# Altium footprint library 4G2.PcbLib: 47 footprints (part 3 of 3)
Each footprint in its own frame and in the unit in brackets; x right, y up, seen from the top. Pads: shape width x height; smd on the part's side, far side on the other; paste and mask are expansions set on the pad; w line width, h text height; cw(c..) or ccw(c..) is an arc to the next point about the centre after c.
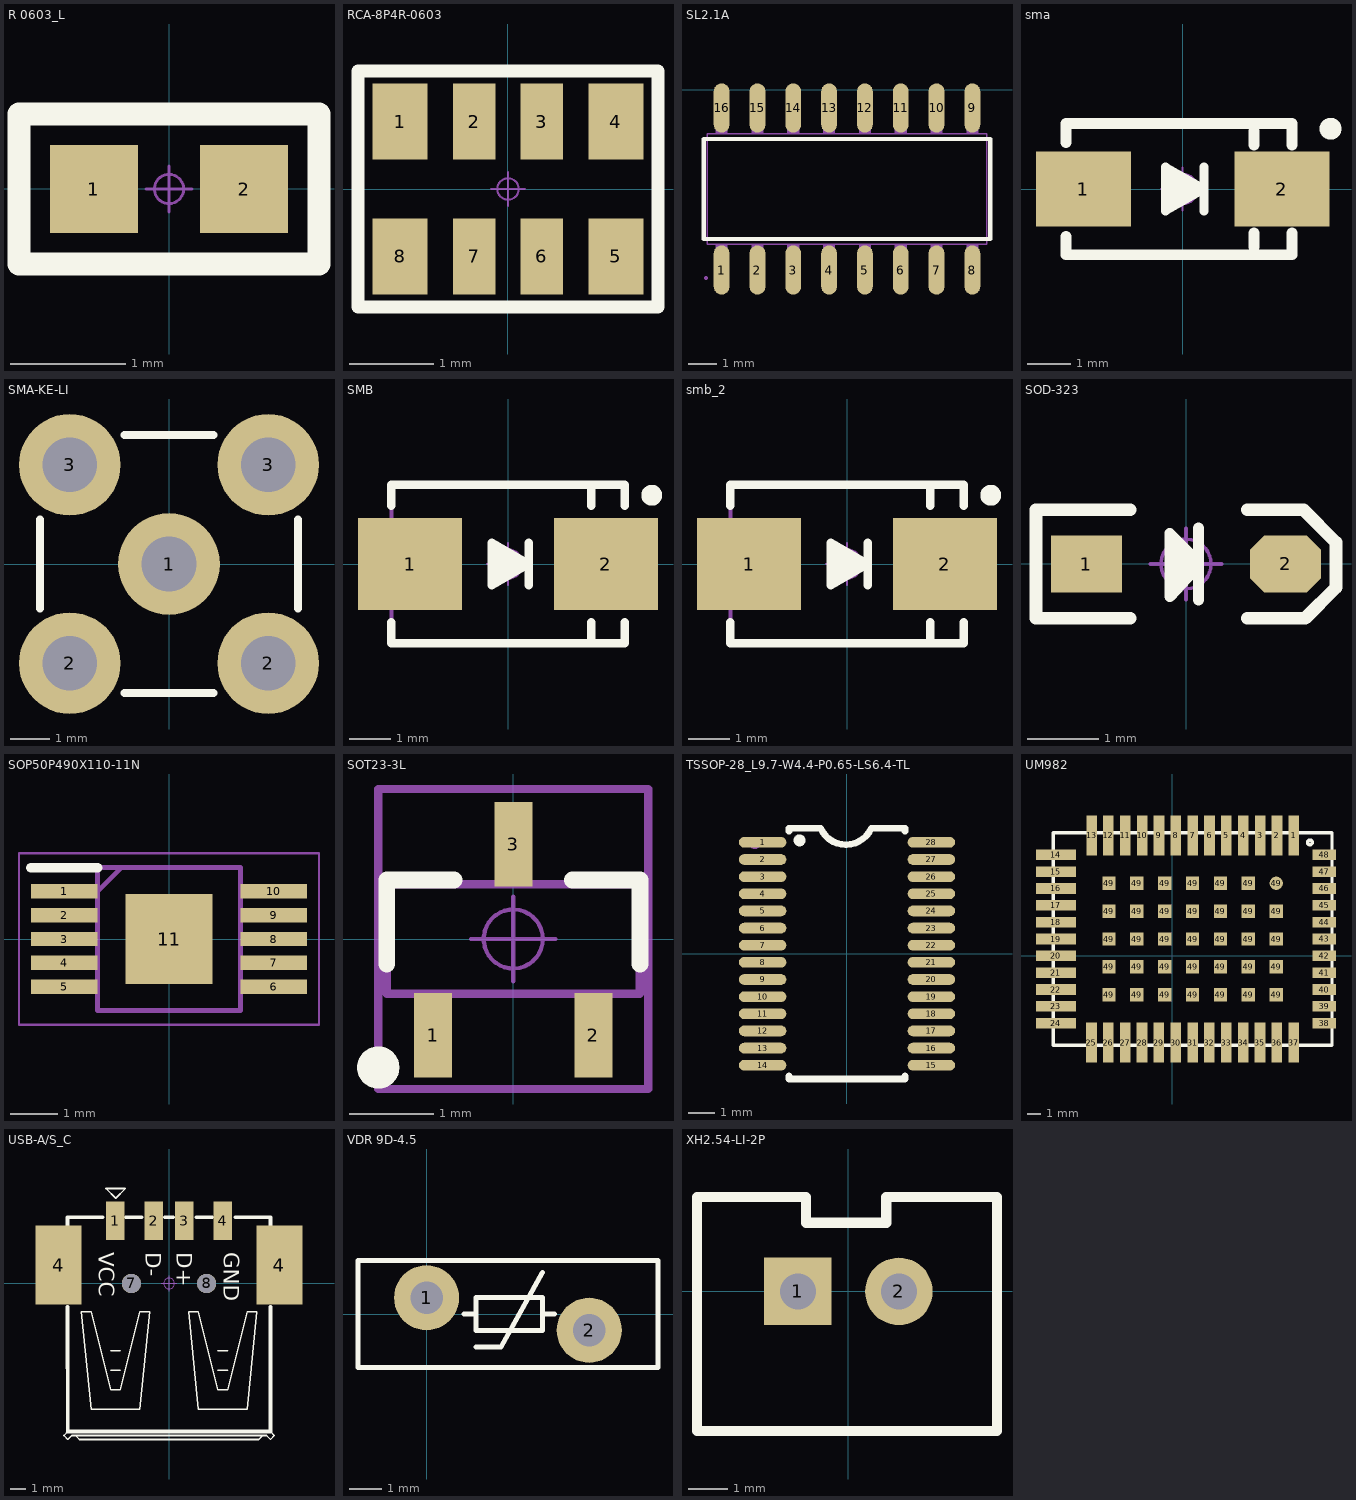
[diagram p2: the footprints below, top view; thin cyan lines are the x and y axes]

## R 0603_L [mil] "1/10W贴片电阻                 淘宝ID:黄晶宝石"
height 196.85
pads (2):
  rect 30x30 smd: 1(-25.59,0) 2(25.59,0)
Top Overlay:
  lines w8: -51.18,-25.59 51.18,-25.59 51.18,25.59 -51.18,25.59 -51.18,-25.59
Mechanical 15:
  circle w1: c0,0 r5
  lines w1: -7.87,0 7.87,0 ; 0,-7.87 0,7.87
3D body "R 0603.STEP": height 15.79, standoff -0.13, extent -31.5,-15.75 31.5,15.75

## RCA-8P4R-0603 [mm] "3.2mm*1.6mm*0.6mm(长*宽*厚)"
height 2.54
pads (8):
  rect 0.65x0.9 smd: 1(-1.28,0.8) 4(1.28,0.8) 5(1.28,-0.8) 8(-1.28,-0.8)
  rect 0.5x0.9 smd: 2(-0.4,0.8) 3(0.4,0.8) 6(0.4,-0.8) 7(-0.4,-0.8)
Top Overlay:
  lines w0.152: -1.778,-1.397 1.778,-1.397 1.778,1.397 -1.778,1.397 -1.778,-1.397
Mechanical 15:
  circle w0.025: c0,0 r0.127
  lines w0.025: -0.2,0 0.2,0 ; 0,-0.2 0,0.2
3D body "RCA-8P4R-0603.STEP": height 0.6, standoff 0, extent -1.6,-0.8 1.6,0.8

## SL2.1A [mm]
pads (16):
  oval 0.56x1.745 smd paste+0 mask+0.051: 1(7.624,-6.383) 2(8.894,-6.383) 3(10.164,-6.383) 4(11.434,-6.383) 5(12.704,-6.383) 6(13.974,-6.383) 7(15.244,-6.383) 8(16.514,-6.383) 9(16.514,-0.638) 10(15.244,-0.638) 11(13.974,-0.638) 12(12.704,-0.638) 13(11.434,-0.638) 14(10.164,-0.638) 15(8.894,-0.638) 16(7.624,-0.638)
Top Overlay:
  lines w0.152: 6.993,-5.282 17.145,-5.282 17.145,-1.739 6.993,-1.739 6.993,-5.282
Mechanical 1:
  drawing of 37 lines, arcs and shapes, not listed
  text "SL2.1A" at 16.054,-1.92 h0.78

## sma [mm] "4.5x2.6*2.2mm（长宽高，不包括引脚）"
height 2.54
pads (2):
  rect 2.2x1.75 smd: 1(-2.3,0) 2(2.3,0)
Top Overlay:
  circle w0.254: c3.429,1.397 r0.127
  lines w0.203: 0.494,-0.508 0.494,0.508 ; -0.395,-0.508 -0.395,0.508 0.494,0 -0.395,-0.508
  lines w0.254: -2.7,-1.105 -2.7,-1.524 2.54,-1.524 2.54,-1.016 ; -2.7,1.08 -2.7,1.524 2.54,1.524 2.54,1.016 ; -0.33,0.305 0.305,0 -0.254,-0.305 -0.254,0.051 0.023,0 ; 1.651,-1.35 1.651,-1.016 ; 1.651,1.016 1.651,1.35
Mechanical 15:
  circle w0.05: c0,0 r0.35
  lines w0.05: -0.5,0 0.5,0 ; 0,-0.5 0,0.5
3D body "SMA.STEP": height 2.15, standoff 0.04, extent -2.522,-1.3 2.575,1.3

## SMA-KE-LI [mm] "SMA 立式直插射频天线座     淘宝ID:黄晶宝石"
pads (5):
  round 2.6 hole 1.4: 1(0,0) 2(-2.54,-2.54) 2(2.54,-2.54) 3(-2.54,2.54) 3(2.54,2.54)
Top Overlay:
  lines w0.203: -3.302,-1.143 -3.302,1.143 ; -1.143,-3.302 1.143,-3.302 ; -1.143,3.302 1.143,3.302 ; 3.302,-1.143 3.302,1.143
3D body "SMA-KE-LI.STEP": height 10.35, standoff -3.16, extent -3.25,-3.25 3.25,3.25

## SMB [mm] "4.7*3.9*2.2mm(长宽高，不包括引脚）"
height 2.4
pads (2):
  rect 2.5x2.2 smd: 1(-2.35,0) 2(2.35,0)
Top Overlay:
  circle w0.25: c3.45,1.65 r0.125
  lines w0.2: -2.8,-1.4 -2.8,-1.9 2.8,-1.9 2.8,-1.4 ; -2.8,1.4 -2.8,1.9 2.8,1.9 2.8,1.4 ; 2,-1.9 2,-1.4 ; 2,1.4 2,1.9
  lines w0.203: 0.5,-0.508 0.5,0.508 ; -0.389,-0.508 0.5,0 -0.389,0.508 -0.389,-0.508
  lines w0.254: -0.254,0 0.279,0 ; 0.279,0 -0.229,-0.305 -0.229,0.279 0.279,0
Mechanical 13:
  lines w0.1: 2.8,-1.9 -2.8,-1.9 -2.8,1.9 2.8,1.9
Mechanical 15:
  circle w0.05: c0,0 r0.35
  lines w0.05: -0.5,0 0.5,0 ; 0,-0.5 0,0.5
3D body "SMB.STEP": height 2.35, standoff 0.04, extent -2.628,-1.8 2.675,1.8

## smb_2 [mm]
pads (2):
  rect 2.5x2.2 smd: 1(-2.35,0) 2(2.35,0)
Top Overlay:
  circle w0.25: c3.45,1.65 r0.125
  lines w0.2: -2.8,-1.4 -2.8,-1.9 2.8,-1.9 2.8,-1.4 ; -2.8,1.4 -2.8,1.9 2.8,1.9 2.8,1.4 ; 2,-1.9 2,-1.4 ; 2,1.4 2,1.9
  lines w0.203: 0.5,-0.508 0.5,0.508 ; -0.389,-0.508 0.5,0 -0.389,0.508 -0.389,-0.508
  lines w0.254: -0.254,0 0.279,0 ; 0.279,0 -0.229,-0.305 -0.229,0.279 0.279,0
Mechanical 13:
  lines w0.1: 2.8,-1.9 -2.8,-1.9 -2.8,1.9 2.8,1.9
Mechanical 15:
  circle w0.05: c0,0 r0.35
  lines w0.05: -0.5,0 0.5,0 ; 0,-0.5 0,0.5
3D body "SMB.STEP": height 2.35, standoff 0.04, extent -2.628,-1.8 2.675,1.8

## SOD-323 [mm] "1.8x1.3X0.9mm（长宽高，不包括引脚）"
height 2.54
pads (2):
  rect 1x0.8 smd: 1(-1.4,0)
  oct 1x0.8 smd: 2(1.4,0)
Top Overlay:
  lines w0.152: 0.178,-0.508 0.178,0.508 ; 0.178,-0.025 -0.229,-0.457 -0.229,0.432 0.178,0.025
  lines w0.178: -0.787,-0.762 -2.108,-0.762 -2.108,0.762 -0.787,0.762 ; 0.864,-0.762 1.676,-0.762 2.108,-0.33 2.108,0.305 1.651,0.762 0.864,0.762
  lines w0.254: -0.127,0.254 -0.152,-0.178 0.025,-0.025 -0.025,0.127
Mechanical 15:
  circle w0.05: c0,0 r0.35
  lines w0.05: -0.5,0 0.5,0 ; 0,-0.5 0,0.5
3D body "SOD-323.STEP": height 1, standoff 0.04, extent -1.337,-0.631 1.311,0.669

## SOP50P490X110-11N [mm]
height 0.254
pads (11):
  rect 1.4x0.3 smd: 1(-2.2,1) 2(-2.2,0.5) 3(-2.2,0) 4(-2.2,-0.5) 5(-2.2,-1) 6(2.2,-1) 7(2.2,-0.5) 8(2.2,0) 9(2.2,0.5) 10(2.2,1)
  rect 1.83x1.89 smd: 11(0,0)
Top Overlay:
  lines w0.2: -2.9,1.5 -1.5,1.5
Mechanical 13:
  lines w0.1: -1.5,1 -1,1.5 ; -1.5,-1.5 1.5,-1.5 1.5,1.5 -1.5,1.5 -1.5,-1.5
Mechanical 15:
  lines w0.05: -3.15,-1.8 3.15,-1.8 3.15,1.8 -3.15,1.8 -3.15,-1.8
3D body "TPS54260MDGQTEP.stp": height 0.96, standoff 0, extent -2.463,-1.5 2.463,1.5

## SOT23-3L [mm] "3x1.3x1mm(长宽高)    封装库来自淘宝卖家 ID：黄晶宝石"
height 1.1
pads (3):
  rect 0.45x1 smd: 1(-0.95,-1.143) 2(0.95,-1.143) 3(0,1.125)
Top Overlay:
  circle w0.25: c-1.6,-1.524 r0.125
  lines w0.2: -1.5,-0.3 -1.5,0.7 -0.7,0.7 ; 0.7,0.7 1.5,0.7 1.5,-0.3
Mechanical 13:
  lines w0.1: -1.5,-0.65 1.5,-0.65 1.5,0.65 -1.5,0.65 -1.5,-0.65
Mechanical 15:
  circle w0.05: c0,0 r0.35
  lines w0.05: -0.5,0 0.5,0 ; 0,-0.5 0,0.5
  lines w0.1: -1.6,-1.778 1.6,-1.778 1.6,1.778 -1.6,1.778 -1.6,-1.778
3D body "SOT23-3.STEP": height 1.05, standoff 0, extent -1.5,-1.2 1.5,1.2

## TSSOP-28_L9.7-W4.4-P0.65-LS6.4-TL [mil]
height 100
pads (28):
  oval 71x16 smd paste+0 mask+2: 1(-125.98,166.35) 2(-125.98,140.76) 3(-125.98,115.16) 4(-125.98,89.57) 5(-125.98,63.98) 6(-125.98,38.39) 7(-125.98,12.8) 8(-125.98,-12.79) 9(-125.98,-38.38) 10(-125.98,-63.97) 11(-125.98,-89.56) 12(-125.98,-115.15) 13(-125.98,-140.74) 14(-125.98,-166.34) 15(125.98,-166.34) 16(125.98,-140.74) 17(125.98,-115.15) 18(125.98,-89.56) 19(125.98,-63.97) 20(125.98,-38.38) 21(125.98,-12.79) 22(125.98,12.8) 23(125.98,38.39) 24(125.98,63.98) 25(125.98,89.57) 26(125.98,115.16) 27(125.98,140.75) 28(125.98,166.34)
Top Overlay:
  circle w10: c-70.87,169.29 r3.94
  lines w10: -86.61,-182.56 -86.61,-186.85 86.61,-186.85 86.61,-182.56 ; -86.61,182.89 -86.61,187.17 -39.37,187.17 ccw(c-1.59,204.44) 36.25,187.32 ; 39.37,187.17 86.61,187.17 86.61,182.89
Mechanical 15:
  circle w10: c-137.8,165.35 r3.94

## UM982 [mm]
height 2.54
pads (83):
  rect 0.8x3 smd paste+0 mask+0.051: 1(9.152,9.07) 2(7.882,9.07) 3(6.612,9.07) 4(5.342,9.07) 5(4.072,9.07) 6(2.802,9.07) 7(1.532,9.07) 8(0.262,9.07) 9(-1.008,9.07) 10(-2.278,9.07) 11(-3.548,9.07) 12(-4.818,9.07) 13(-6.088,9.07) 25(-6.095,-6.53) 26(-4.825,-6.53) 27(-3.555,-6.53) 28(-2.285,-6.53) 29(-1.015,-6.53) 30(0.255,-6.53) 31(1.525,-6.53) 32(2.795,-6.53) 33(4.065,-6.53) 34(5.335,-6.53) 35(6.605,-6.53) 36(7.875,-6.53) 37(9.145,-6.53)
  rect 3x0.8 smd paste+0 mask+0.051: 14(-8.776,7.62) 15(-8.776,6.35) 16(-8.776,5.08) 17(-8.776,3.81) 18(-8.776,2.54) 19(-8.776,1.27) 20(-8.776,0) 21(-8.776,-1.27) 22(-8.776,-2.54) 23(-8.776,-3.81) 24(-8.776,-5.08)
  rect 1.778x0.8 smd paste+0 mask+0.051: 38(11.443,-5.08) 39(11.443,-3.81) 40(11.443,-2.54) 41(11.443,-1.27) 42(11.443,0) 43(11.443,1.27) 44(11.443,2.54) 45(11.443,3.81) 46(11.443,5.08) 47(11.443,6.35) 48(11.443,7.62)
  rect 1x1 smd paste+0 mask+0.051: 49(-4.776,-2.93) 49(-4.776,-0.83) 49(-4.776,1.27) 49(-4.776,3.37) 49(-4.776,5.47) 49(-2.676,-2.93) 49(-2.676,1.27) 49(-2.676,3.37) 49(-2.676,-0.83) 49(-2.676,5.47) 49(-0.576,-2.93) 49(-0.576,1.27) 49(-0.576,3.37) 49(-0.576,5.47) 49(-0.576,-0.83) 49(1.524,-2.93) 49(1.524,-0.83) 49(1.524,3.37) 49(1.524,5.47) 49(1.524,1.27) 49(3.624,-0.83) 49(3.624,1.27) 49(3.624,5.47) 49(3.624,-2.93) 49(3.624,3.37) 49(5.724,-2.93) 49(5.724,-0.83) 49(5.724,1.27) 49(5.724,3.37) 49(5.724,5.47) 49(7.824,-2.93) 49(7.824,-0.83) 49(7.824,1.27) 49(7.824,3.37)
  round 1 smd paste+0 mask+0.051: 49(7.824,5.47)
Top Overlay:
  circle w0.254: c10.364,8.55 r0.179
  lines w0.254: -8.968,-6.73 -8.968,9.27 12.032,9.27 12.032,-6.73 -8.968,-6.73

## USB-A/S_C [mm] "A型贴片母头， 淘宝ID:黄晶宝石   店铺网址:https://shop463601444.taobao.com"
height 2.54
pads (8):
  rect 1.2x2.5 smd: 1(-3.5,4.1) 2(-1,4.1) 3(1,4.1) 4(3.5,4.1)
  rect 3x5.15 smd: 4(-7.2,1.2) 4(7.2,1.2)
  round 1.25 hole 1.25 unplated: 7(-2.45,0) 8(2.45,0)
Top Overlay:
  lines w0.1: -6.597,-9.652 -6.851,-9.906 -6.597,-10.16 -6.343,-9.906 -6.089,-9.906 ; -3.803,-5.649 -3.168,-5.649 ; -3.803,-4.379 -3.168,-4.379 ; 3.182,-5.649 3.817,-5.649 ; 3.182,-4.379 3.817,-4.379 ; 6.611,-9.652 6.865,-9.906 6.611,-10.16 6.357,-9.906 6.103,-9.906 ; -6.089,-9.906 -5.835,-10.166 5.849,-10.166 6.103,-9.906 ; -6.089,-9.906 6.103,-9.906 ; -5.708,-1.839 -5.073,-8.189 -1.898,-8.189 -1.263,-1.839 -1.898,-1.839 -3.168,-6.919 -3.803,-6.919 -5.073,-1.839 -5.708,-1.839 ; -4.113,6.19 -3.478,5.555 -2.843,6.19 -4.113,6.19 ; 1.277,-1.839 1.912,-8.189 5.087,-8.189 5.722,-1.839 5.087,-1.839 3.817,-6.919 3.182,-6.919 1.912,-1.839 1.277,-1.839
  lines w0.254: -6.604,-1.524 -6.597,-9.652 ; -6.604,3.81 -6.604,4.318 -4.318,4.318 ; -6.597,-9.652 6.611,-9.652 ; -2.794,4.318 -1.778,4.318 ; -0.254,4.318 0.254,4.318 ; 1.778,4.318 2.794,4.318 ; 4.318,4.318 6.611,4.318 6.604,3.81 ; 6.604,-1.524 6.611,-9.652
  text "GND" at 3.556,2.032 h1.02
  text "D+" at 0.508,2.032 h1.02
  text "D-" at -1.524,2.032 h1.02
  text "VCC" at -4.572,2.032 h1.02
Mechanical 15:
  circle w0.05: c0,0 r0.35
  lines w0.05: -0.5,0 0.5,0 ; 0,-0.5 0,0.5
3D body "USB A型 ?": height 7.4, standoff -0.55, extent -7.75,-9.9 7.75,4.8

## VDR 9D-4.5 [mm] "压敏电阻9mm*4.5mm(直径*厚度）          淘宝ID:黄晶宝石"
height 0.254
pads (2):
  round 2 hole 1: 1(0,0.5) 2(5,-0.5)
Top Overlay:
  lines w0.152: 1.143,0 1.524,0 ; 1.524,-1.016 2.286,-1.016 3.556,1.27 ; 3.556,0 3.937,0 ; -2.108,-1.651 7.112,-1.651 7.112,1.651 -2.108,1.651 -2.108,-1.651 ; 1.524,-0.508 1.524,0.508 3.556,0.508 3.556,-0.508 1.524,-0.508
3D body "9D-4.5.STEP": height 10, standoff -3.5, extent -1.998,-1.5 6.999,1.5

## XH2.54-LI-2P [mm] "接插件，2P  淘宝ID:黄晶宝石   店铺网址:https://shop463601444.taobao.com"
pads (2):
  rect 1.7x1.7 hole 0.9: 1(-1.27,0)
  round 1.7 hole 0.9: 2(1.27,0)
Top Overlay:
  lines w0.254: -3.807,-3.505 3.736,-3.505 3.736,2.37 2.954,2.37 0.953,2.37 0.953,1.727 -1.067,1.727 -1.067,2.37 -3.807,2.37 -3.807,-3.505
3D body "XH2.54-2P.STEP": height 7.05, standoff -2.45, extent -3.77,-3.3 3.77,2.4